# Altium integrated library TL3301NF260QG.IntLib: 1 symbol
Pins are listed as number, name and electrical type; pins without a type are passive.

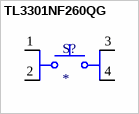
[diagram p0: symbol TL3301NF260QG]

## TL3301NF260QG
designator S?
MP: TL3301NF260QG; Value: *; Package: None; Price: None; Availability: Unavailable
footprint SW_TL3301NF260QG
pins: 1, 2, 3, 4